# EAGLE library part SPRINGCON_AST125_5X2 (library xMZ-Mod-Touch-Bodenplatine)
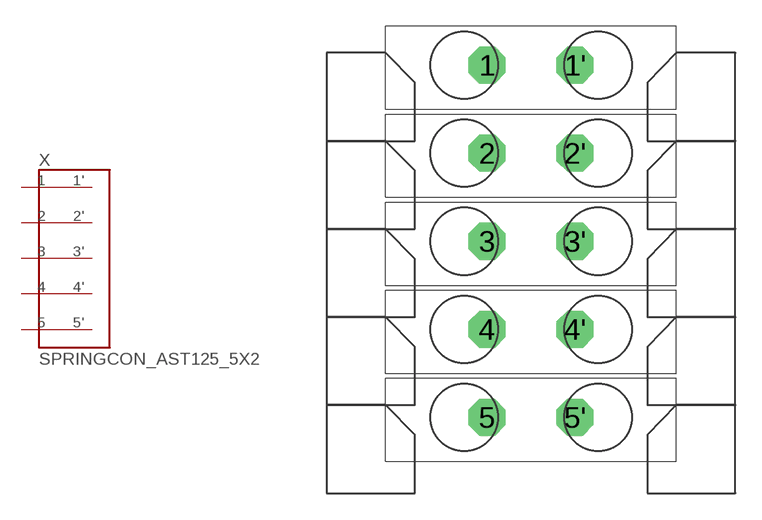
[diagram p2: symbol with the pads of SPRINGCON_AST125_5X2; footprint SPRINGCON_AST125_5X2]

Designator prefix X

## SPRINGCON_AST125_5X2  [SPRINGCON_AST125_5X2]
1  1  pas
1'  1  pas
2  2  pas
2'  2  pas
3  3  pas
3'  3  pas
4  4  pas
4'  4  pas
5  5  pas
5'  5  pas

## Footprint SPRINGCON_AST125_5X2 (pad centres in mm)
drill 1.4 octagon: 1 -2.5,10; 1' 2.5,10; 2 -2.5,5; 2' 2.5,5; 3 -2.5,0; 3' 2.5,0; 4 -2.5,-5; 4' 2.5,-5; 5 -2.5,-10; 5' 2.5,-10